# EAGLE library part HV5* (library intertubeClock)
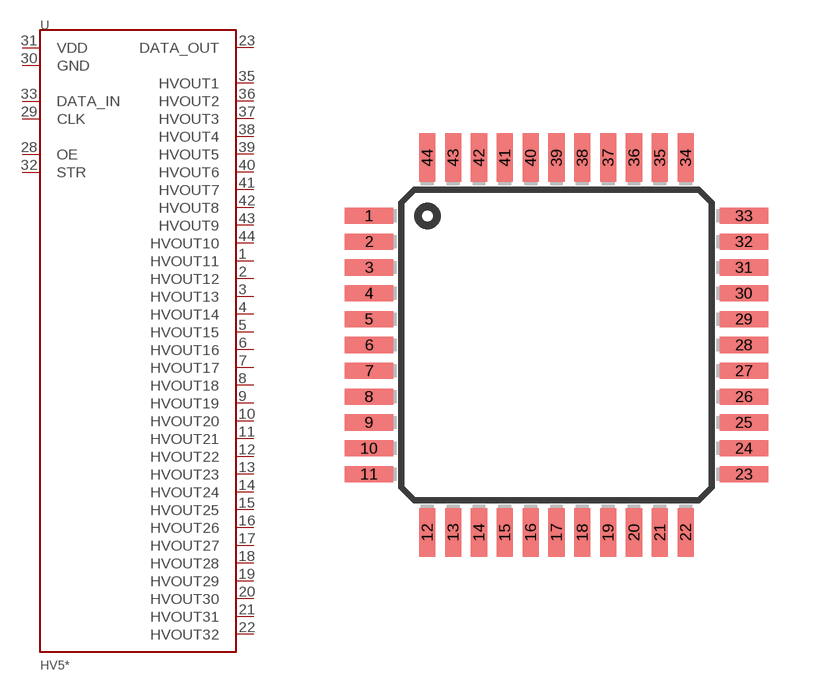
[diagram p0: symbol with the pads of TQFP44; footprint TQFP44]

Designator prefix U

## HV5122PG, HV5222PG  [TQFP44]
1  HVOUT11
2  HVOUT12
3  HVOUT13
4  HVOUT14
5  HVOUT15
6  HVOUT16
7  HVOUT17
8  HVOUT18
9  HVOUT19
10  HVOUT20
11  HVOUT21
12  HVOUT22
13  HVOUT23
14  HVOUT24
15  HVOUT25
16  HVOUT26
17  HVOUT27
18  HVOUT28
19  HVOUT29
20  HVOUT30
21  HVOUT31
22  HVOUT32
23  DATA_OUT
28  OE
29  CLK
30  GND
31  VDD
32  STR
33  DATA_IN
35  HVOUT1
36  HVOUT2
37  HVOUT3
38  HVOUT4
39  HVOUT5
40  HVOUT6
41  HVOUT7
42  HVOUT8
43  HVOUT9
44  HVOUT10

## Footprint TQFP44 (pad centres in mm)
Thin Quad Flat Pack package type TQ
smd 1.5 x 0.5: 1 -5.8,4; 2 -5.8,3.2; 3 -5.8,2.4; 4 -5.8,1.6; 5 -5.8,0.8; 6 -5.8,0; 7 -5.8,-0.8; 8 -5.8,-1.6; 9 -5.8,-2.4; 10 -5.8,-3.2; 11 -5.8,-4; 23 5.8,-4; 24 5.8,-3.2; 25 5.8,-2.4; 26 5.8,-1.6; 27 5.8,-0.8; 28 5.8,0; 29 5.8,0.8; 30 5.8,1.6; 31 5.8,2.4; 32 5.8,3.2; 33 5.8,4
smd 0.5 x 1.5: 12 -4,-5.8; 13 -3.2,-5.8; 14 -2.4,-5.8; 15 -1.6,-5.8; 16 -0.8,-5.8; 17 0,-5.8; 18 0.8,-5.8; 19 1.6,-5.8; 20 2.4,-5.8; 21 3.2,-5.8; 22 4,-5.8; 34 4,5.8; 35 3.2,5.8; 36 2.4,5.8; 37 1.6,5.8; 38 0.8,5.8; 39 0,5.8; 40 -0.8,5.8; 41 -1.6,5.8; 42 -2.4,5.8; 43 -3.2,5.8; 44 -4,5.8